# EAGLE library part IP4283CZ10-TBR (library Revolve)
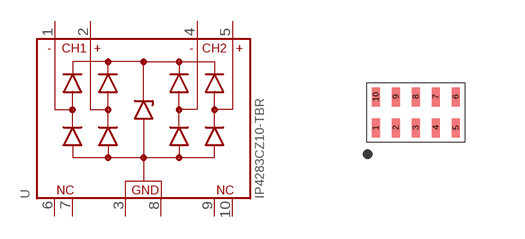
[diagram p9: symbol with the pads of UDFN; footprint UDFN]

Designator prefix -

## IP4283CZ10-TBR  [UDFN]
1  TMDS.CH1-
2  TMDS.CH1+
3  GND1
4  TMDS.CH2-
5  TMDS.CH2+
6  NC1
7  NC2
8  GND2
9  NC3
10  NC4

## Footprint UDFN (pad centres in mm)
smd 0.2 x 0.475: 1 -1,-0.388; 2 -0.5,-0.388; 3 0,-0.388; 4 0.5,-0.388; 5 1,-0.388; 6 1,0.388; 7 0.5,0.388; 8 0,0.388; 9 -0.5,0.388; 10 -1,0.388